# EAGLE library part L76 (library Quectel)
Quectel L76 GPS module. Created by Jozsef Kovacs RobotSzoft Kft
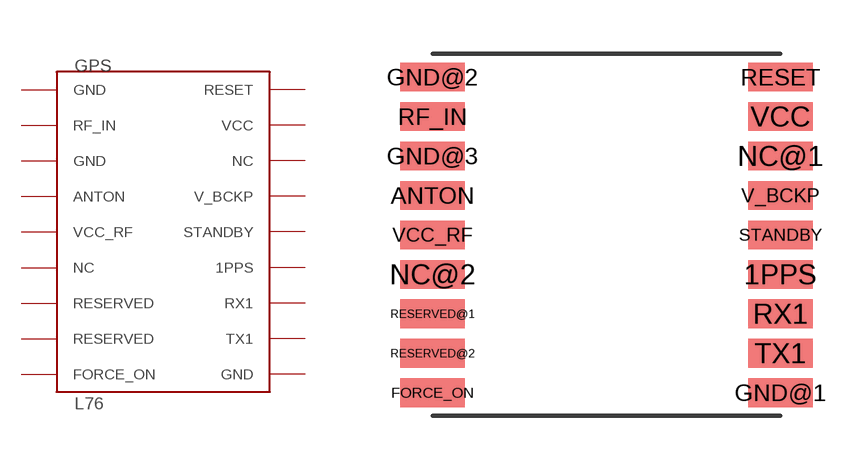
[diagram p0: symbol with the pads of L76; footprint L76]

Designator prefix GPS

## L76  [L76]
1PPS  1PPS
ANTON  ANTON
FORCE_ON  FORCE_ON
GND@1  GND
GND@2  GND
GND@3  GND
NC@1  NC
NC@2  NC
RESERVED@1  RESERVED
RESERVED@2  RESERVED
RESET  RESET
RF_IN  RF_IN
RX1  RX1
STANDBY  STANDBY
TX1  TX1
V_BCKP  V_BCKP
VCC  VCC
VCC_RF  VCC_RF

## Footprint L76 (pad centres in mm)
smd 1.8 x 0.8: 1PPS 5.08,-1.69; ANTON -4.62,0.51; FORCE_ON -4.62,-4.99; GND@1 5.08,-4.99; GND@2 -4.62,3.81; GND@3 -4.62,1.61; NC@1 5.08,1.61; NC@2 -4.62,-1.69; RESERVED@1 -4.62,-2.79; RESERVED@2 -4.62,-3.89; RESET 5.08,3.81; RF_IN -4.62,2.71; RX1 5.08,-2.79; STANDBY 5.08,-0.59; TX1 5.08,-3.89; V_BCKP 5.08,0.51; VCC 5.08,2.71; VCC_RF -4.62,-0.59